# Altium footprint library CAP_RADIAL-CAN_SMD_M.PcbLib: 1 footprints
Each footprint in its own frame and in the unit in brackets; x right, y up, seen from the top. Pads: shape width x height; smd on the part's side, far side on the other; paste and mask are expansions set on the pad; w line width, h text height; cw(c..) or ccw(c..) is an arc to the next point about the centre after c.
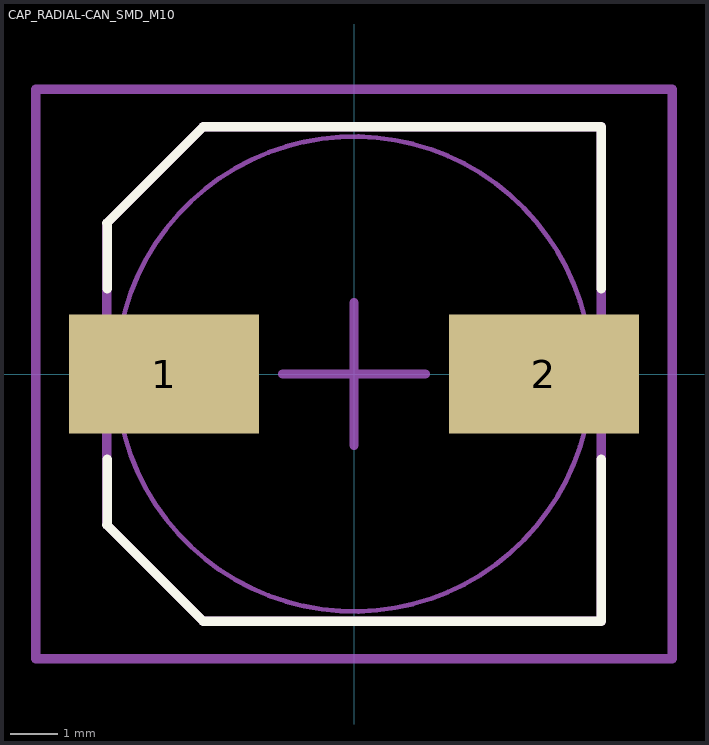
[diagram p0: the footprint, top view; thin cyan lines are the x and y axes]

## CAP_RADIAL-CAN_SMD_M10 [mm]
pads (2):
  rect 4x2.5 smd: 1(-4,0) 2(4,0)
Top Overlay:
  lines w0.2: -5.2,-1.8 -5.2,-3.175 -5.207,-3.175 -3.175,-5.207 5.207,-5.207 5.207,-1.8 ; -5.2,1.8 -5.2,3.175 -5.207,3.175 -3.175,5.207 5.207,5.207 5.207,1.8
Mechanical 13:
  circle w0.1: c0,0 r5
  lines w0.2: -5.207,-3.175 -3.175,-5.207 5.207,-5.207 5.207,5.207 -3.175,5.207 -5.207,3.175 -5.207,-3.175
Mechanical 15:
  lines w0.2: -1.5,0 1.5,0 ; 0,-1.5 0,1.5 ; -6.7,-6 -6.7,6 6.7,6 6.7,-6 -6.7,-6
3D body: height 11, standoff 1, extent -4.953,-5.027 5.008,4.953
3D body: height 1, standoff 0, extent -5.207,-5.207 5.207,5.207